# Altium footprint library IMX6.PcbLib: 43 footprints (part 1 of 3)
Each footprint in its own frame and in the unit in brackets; x right, y up, seen from the top. Pads: shape width x height; smd on the part's side, far side on the other; paste and mask are expansions set on the pad; w line width, h text height; cw(c..) or ccw(c..) is an arc to the next point about the centre after c.
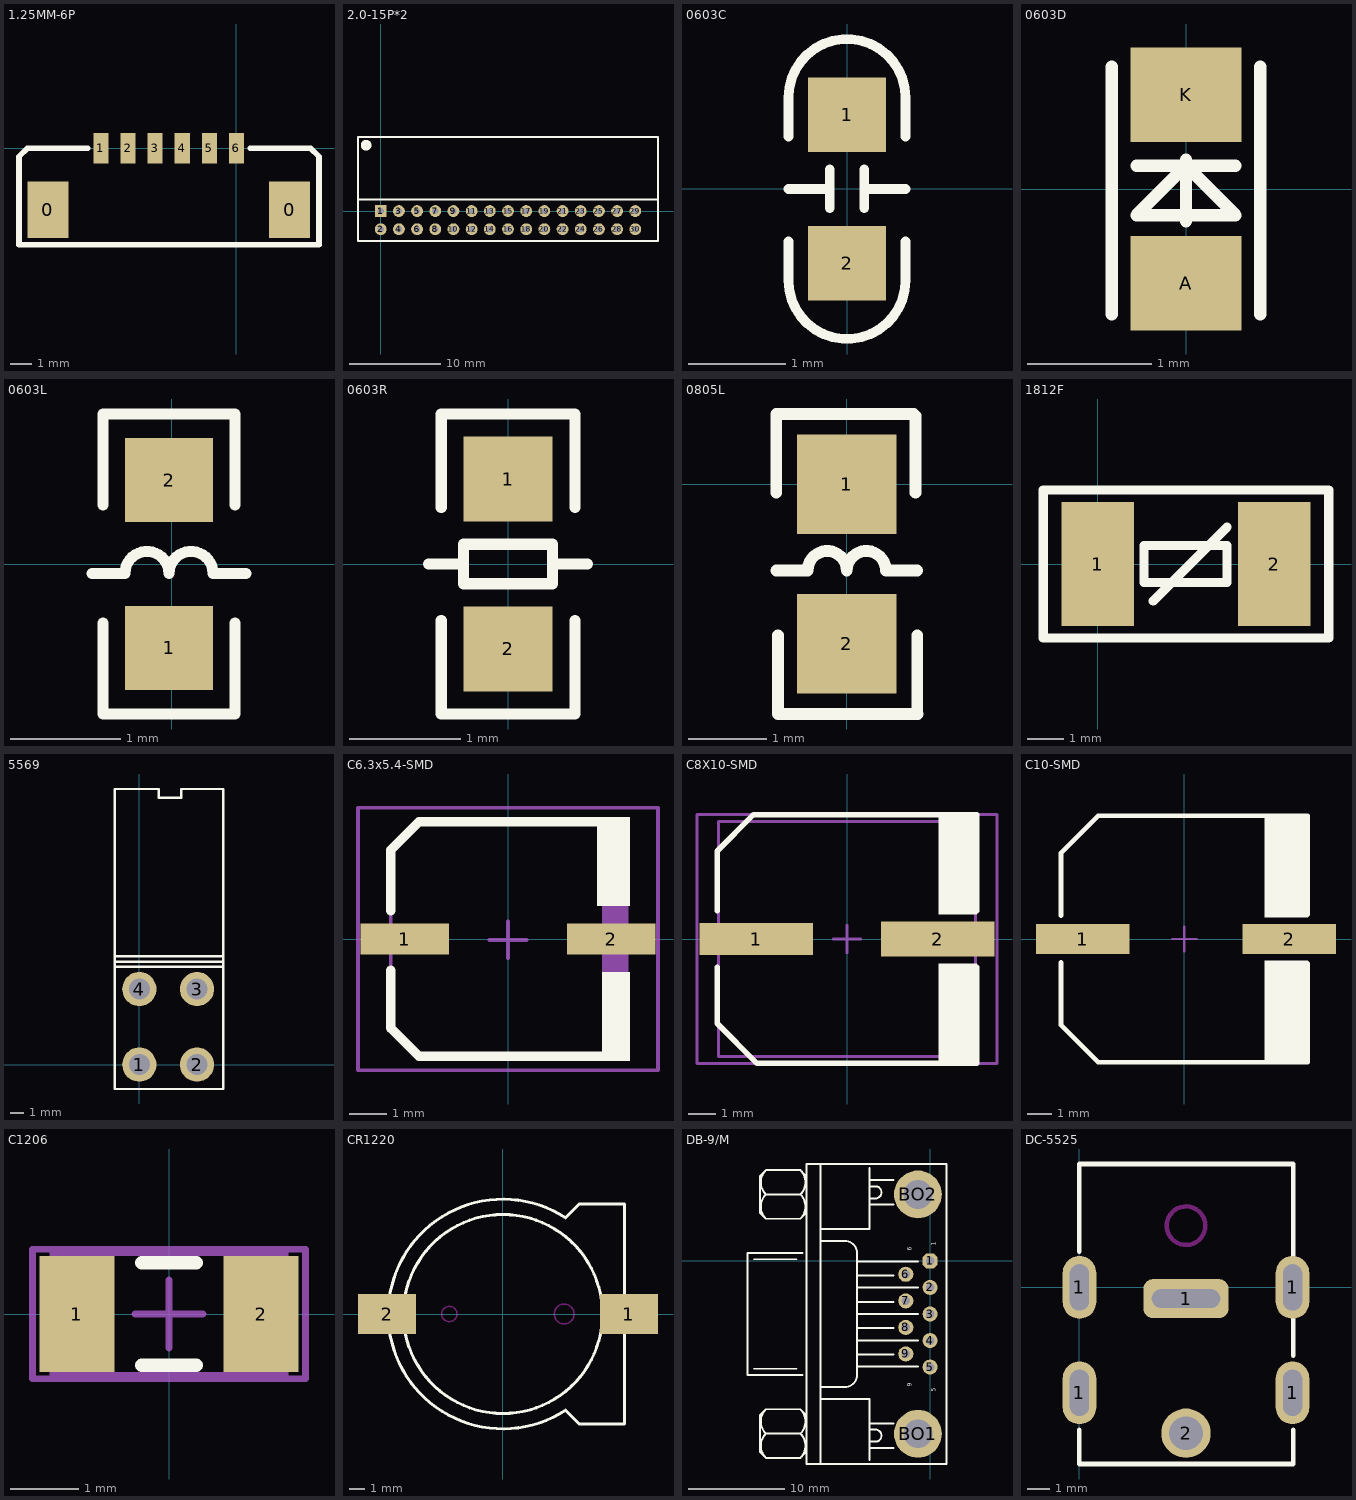
[diagram p0: the footprints below, top view; thin cyan lines are the x and y axes]

## 1.25MM-6P [mm]
pads (8):
  rect 1.9x2.6 smd: 0(-8.7,-2.835) 0(2.45,-2.835)
  rect 0.7x1.4 smd: 1(-6.25,0) 2(-5,0) 3(-3.75,0) 4(-2.5,0) 5(-1.25,0) 6(0,0)
Top Overlay:
  lines w0.254: -6.858,0 -9.652,0 -10.033,-0.381 -10.033,-4.445 3.81,-4.445 3.81,-0.381 3.429,0 0.635,0

## 2.0-15P*2 [mm]
pads (30):
  rect 1.301x1.301 hole 0.68: 1(0,0)
  round 1.301 hole 0.68: 2(0,-2) 3(2,0) 4(2,-2) 5(4,0) 6(4,-2) 7(6,0) 8(6,-2) 9(8,0) 10(8,-2) 11(10,0) 12(10,-2) 13(12,0) 14(12,-2) 15(14,0) 16(14,-2) 17(16,0) 18(16,-2) 19(18,0) 20(18,-2) 21(20,0) 22(20,-2) 23(22,0) 24(22,-2) 25(24,0) 26(24,-2) 27(26,0) 28(26,-2) 29(28,0) 30(28,-2)
Top Overlay:
  circle w1: c-1.602,7.239 r0.078
  lines w0.254: -2.5,1.27 30.5,1.27 ; -2.5,-3.302 -2.5,8.15 30.5,8.15 30.5,-3.302 -2.5,-3.302

## 0603C [mil]
pads (2):
  rect 31.5x30 smd: 1(0,30) 2(0,-30)
Top Overlay:
  lines w3.94: -23.62,-21.18 -23.62,-36.93 ccw(c0,-36.93) 23.62,-36.93 23.62,-21.18 ; -23.62,0 -7.87,0 ; -23.62,21.18 -23.62,36.93 cw(c0,36.93) 23.62,36.93 23.62,21.18 ; -7,-7.75 -7,8 ; 7,-7.75 7,8 ; 7.87,0 23.62,0

## 0603D [mil]
pads (2):
  rect 35.43x30 smd: A(0,-30) K(0,30)
Top Overlay:
  lines w3.94: -23.62,-39.81 -23.62,38.93 ; -15.75,7.43 15.75,7.43 ; 0,-10.28 0,9.4 ; 23.62,-39.81 23.62,38.93 ; -15.75,-8.31 0,7.43 15.75,-8.31 -15.75,-8.31

## 0603L [mm]
pads (2):
  rect 0.8x0.762 smd: 1(-0.023,-0.76) 2(-0.023,0.764)
Top Overlay:
  lines w0.1: -0.723,-0.084 -0.423,-0.084 cw(c-0.223,-0.084) -0.023,-0.084 cw(c0.177,-0.084) 0.377,-0.084 0.677,-0.084 ; -0.623,-0.536 -0.623,-1.36 0.577,-1.36 0.577,-0.536 ; -0.623,0.54 -0.623,1.364 0.577,1.364 0.577,0.54

## 0603R [mil]
pads (2):
  rect 31.5x30 smd: 1(0,30) 2(0,-30)
Top Overlay:
  lines w3.94: -23.59,-20 -23.59,-53 23.66,-53 23.66,-20 ; -23.59,20 -23.59,53 23.66,53 23.66,20 ; -15.71,-7 15.78,-7 15.78,7 -15.71,7 -15.71,-7
  lines w4: -28,0 -15.71,0 ; 15.78,0 28,0

## 0805L [mil]
pads (2):
  rect 50x50 smd: 1(0,0) 2(0,-80)
Top Overlay:
  lines w5: 33.7,35.43 34.57,34.57
  lines w5.91: -35.43,-43.31 -19.68,-43.31 cw(c-9.84,-43.31) 0,-43.31 cw(c9.84,-43.31) 19.68,-43.31 35.43,-43.31 ; -35.43,-4.13 -35.43,15.87 -35.43,35.43 33.7,35.43 ; -34.57,-115.43 35.67,-115.43 ; -34.57,-115.04 -34.57,-95.87 -34.57,-75.87 ; 34.57,-4.13 34.57,15.87 34.57,34.57 ; 35.43,-115.2 35.43,-95.87 35.43,-75.87

## 1812F [mm]
pads (2):
  rect 2x3.4 smd: 1(0,0) 2(4.85,0)
Top Overlay:
  lines w0.254: 1.524,-1.016 3.556,1.016 ; -1.5,-2.032 -1.5,2.032 6.35,2.032 6.35,-2.032 -1.5,-2.032 ; 1.27,-0.508 1.27,0.508 3.556,0.508 3.556,-0.508 1.27,-0.508

## 5569 [mm]
pads (4):
  round 2.5 hole 1.524: 1(0,0) 2(4.2,0) 3(4.2,5.5) 4(0,5.5)
Top Overlay:
  lines w0.178: -1.778,7.493 6.096,7.493 ; -1.778,7.874 6.096,7.874 ; -1.778,7.112 6.096,7.112 ; -1.778,7.112 -1.778,-1.778 6.096,-1.778 6.096,7.112 ; -1.778,7.112 -1.778,20.066 1.397,20.066 1.397,19.431 2.159,19.431 3.048,19.431 3.048,20.066 6.096,20.066 6.096,7.112

## C6.3x5.4-SMD [mm]
pads (2):
  rect 2.4x0.85 smd: 1(-2.794,0) 2(2.794,0)
Top Overlay:
  rectangle: 2.413,0.889 3.302,3.302
  rectangle: 2.54,-3.302 3.302,-0.889
  lines w0.254: -3.175,-0.85 -3.175,-2.413 -2.413,-3.175 2.921,-3.175 ; -3.175,0.762 -3.175,2.413 -2.413,3.175 3.048,3.175
Mechanical 13:
  rectangle: 2.54,-3.302 3.266,3.302
  lines w0.1: -3.175,-2.413 -2.413,-3.175 2.7,-3.175 2.7,3.175 -2.413,3.175 -3.175,2.413 -3.175,-2.413
Mechanical 15:
  lines w0.1: -0.5,-0.025 0.5,-0.025 ; 0,-0.525 0,0.475 ; -4.064,-3.556 -4.064,3.556 4.064,3.556 4.064,-3.556 -4.064,-3.556
3D body: height 3.5, standoff 0, extent -3.238,-3.175 3.238,3.175

## C8X10-SMD [mm]
pads (2):
  rect 4.1x1.148 smd: 1(-3.277,0)
  rect 4.1x1.25 smd: 2(3.277,0)
Top Overlay:
  rectangle: 3.302,-4.5 4.699,-0.889
  rectangle: 3.302,0.889 4.699,4.5
  lines w0.2: -4.7,1.025 -4.7,3.174 -3.374,4.5 4.7,4.5 4.7,1.025 ; -4.699,-1.025 -4.699,-3.048 -3.247,-4.5 4.7,-4.5 4.7,-1.025
Mechanical 13:
  lines w0.1: -4.65,-4.25 4.65,-4.25 4.65,4.25 -4.65,4.25 -4.65,-4.25
Mechanical 15:
  lines w0.1: -0.5,0 0.5,0 ; 0,-0.5 0,0.5 ; -5.425,-4.5 5.425,-4.5 5.425,4.5 -5.425,4.5 -5.425,-4.5
3D body: height 10.5, standoff 0, extent -4.65,-4.25 4.65,4.25

## C10-SMD [mm]
pads (2):
  rect 3.85x1.25 smd: 1(-4.191,0) 2(4.318,0)
Top Overlay:
  rectangle: 3.302,-5.08 5.08,-0.889
  rectangle: 3.302,0.889 5.08,5.08
  lines w0.2: -5.08,-0.975 -5.08,-3.556 -3.556,-5.08 5.08,-5.08 5.08,-1.016 ; -5.08,0.975 -5.08,3.556 -3.556,5.08 5.08,5.08 5.08,1.016
Mechanical 15:
  lines w0.1: -0.5,0 0.5,0 ; 0,-0.5 0,0.5

## C1206 [mm]
pads (2):
  rect 1.1x1.7 smd: 1(-1.35,0) 2(1.35,0)
Top Overlay:
  lines w0.2: -0.4,-0.75 0.4,-0.75 ; -0.4,0.75 0.4,0.75
Mechanical 13:
  lines w0.1: -1.7,-0.9 1.7,-0.9 1.7,0.9 -1.7,0.9 -1.7,-0.9
Mechanical 15:
  lines w0.1: -0.5,0 0.5,0 ; 0,-0.5 0,0.5 ; -2,-0.95 2,-0.95 2,0.95 -2,0.95 -2,-0.95
3D body: height 1.3, standoff 0, extent -1.7,-0.9 1.7,0.9

## CR1220 [mm]
pads (2):
  rect 3.8x2.6 smd: 1(8.23,0) 2(-7.57,0)
Top Overlay:
  circle w0.2: c0,0 r6.5
  lines w0.152: 5,7.2 5,7.2
  lines w0.2: 4.085,-6.29 cw(c0,0) 4.085,6.29 ; 4.1,-6.3 5,-7.2 7.9,-7.2 ; 4.1,6.3 5,7.2 7.9,7.2 ; 7.94,-7.2 7.94,7.2
Keep-Out Layer:
  circle w0.1: c4,0 r0.65
  circle w0.1: c-3.5,0 r0.5

## DB-9/M [mil]
pads (11):
  oct 62x62 hole 35: 1(0,0)
  round 62 hole 35: 2(0,-109.17) 3(0,-218.33) 4(0,-327.5) 5(0,-436.67) 6(-100,-55) 7(-100,-164.17) 8(-100,-273.33) 9(-100,-382.5)
  round 196.67 hole 118.33: BO1(-50,-710.83) BO2(-50,273.33)
Top Overlay:
  lines w8: -725,-443.33 -550,-443.33 ; -725,6.67 -550,6.67 ; -675.09,-810.09 cw(c-625,-760) -675.09,-709.91 ; -675.09,-710.09 cw(c-625,-660) -675.09,-609.91 ; -675.09,173.25 cw(c-625,223.33) -675.09,273.42 ; -675.09,273.25 cw(c-625,323.33) -675.09,373.42 ; -675,-710 -533.33,-710 ; -675,273.33 -533.33,273.33 ; -533.25,-810.09 ccw(c-583.33,-760) -533.25,-709.91 ; -533.25,-710.09 ccw(c-583.33,-660) -533.25,-609.91 ; -533.25,173.25 ccw(c-583.33,223.33) -533.25,273.42 ; -533.25,273.25 ccw(c-583.33,323.33) -533.25,373.42 ; -525,-468.33 -750,-468.33 -750,31.67 -525,31.67 ; -508.33,-785 -533.33,-810 -675,-810 -700,-785 -700,-635 -675,-610 -533.33,-610 -508.33,-635 ; -508.33,198.33 -533.33,173.33 -675,173.33 -700,198.33 -700,348.33 -675,373.33 -533.33,373.33 -508.33,348.33 ; -450,-835 -450,398.33 ; -450,-568.33 -250,-568.33 -250,-818.33 ; -450,-518.33 -350,-518.33 ccw(c-350,-468.33) -300,-468.33 -300,31.67 ccw(c-350,31.67) -350,81.67 -450,81.67 ; -450,131.67 -250,131.67 -250,381.67 ; -300,-435 -50,-435 ; -300,-385 -150,-385 ; -300,-326.67 -50,-326.67 ; -300,-276.67 -150,-276.67 ; -300,-218.33 -50,-218.33 ; -300,-168.33 -150,-168.33 ; -300,-110 -50,-110 ; -300,-60 -158.33,-60 -150,-60 ; -300,-1.67 -50,-1.67 ; -250,-768.33 -150,-768.33 ; -250,-743.33 -225,-743.33 ccw(c-225,-718.33) -225,-693.33 -250,-693.33 ; -250,-668.33 -150,-668.33 ; -250,231.67 -150,231.67 ; -250,256.67 -225,256.67 ccw(c-225,281.67) -225,306.67 -250,306.67 ; -250,331.67 -150,331.67 ; -508.33,-835 -508.33,398.33 66.67,398.33 66.67,-835 -508.33,-835
  text "9" at -70,-518.33 h30
  text "5" at 30,-538.33 h30
  text "1" at 30,61.67 h30
  text "6" at -70,41.67 h30

## DC-5525 [mm]
pads (6):
  oval 1.5x2.8 hole 0.85 slot 2.06 at 90 deg: 1(0,-4.7) 1(0,0) 1(9.5,-4.7) 1(9.5,0)
  rrect50% 3.8x1.75 hole 0.83 slot 3.05 at 0 deg: 1(4.75,-0.5)
  round 2.2 hole 1.5: 2(4.75,-6.5)
Top Overlay:
  lines w0.203: 0,-6.35 0,-7.874 9.271,-7.874 9.525,-7.874 9.525,-6.35 ; 0,1.592 0,5.5 9.525,5.5 9.525,-1.524 9.525,-3.048
Keep-Out Layer:
  circle w0.2: c4.75,2.75 r0.86